# Altium footprint library 4700uF_100V.PcbLib: 1 footprints
Each footprint in its own frame and in the unit in brackets; x right, y up, seen from the top. Pads: shape width x height; smd on the part's side, far side on the other; paste and mask are expansions set on the pad; w line width, h text height; cw(c..) or ccw(c..) is an arc to the next point about the centre after c.
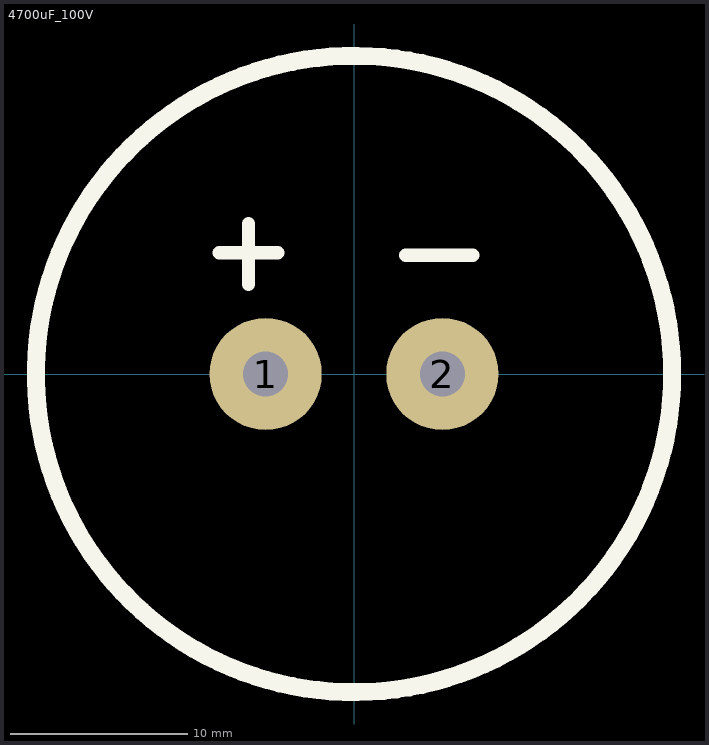
[diagram p0: the footprint, top view; thin cyan lines are the x and y axes]

## 4700uF_100V [mm]
pads (2):
  round 6.35 hole 2.54: 1(-5,0) 2(5,0)
Top Overlay:
  circle w1.016: c0,0 r18
  lines w0.762: -7.62,6.858 -4.318,6.858 ; -5.969,5.08 -5.969,8.509 ; 2.921,6.731 6.731,6.731
3D body "elh477m400at4aa.stp": height 43, standoff -5.79, extent -25.456,-25.456 25.456,25.456